# EAGLE library part TL071CN (library ST Microelctronics_By_element14_Batch_1)
single operational amplifier
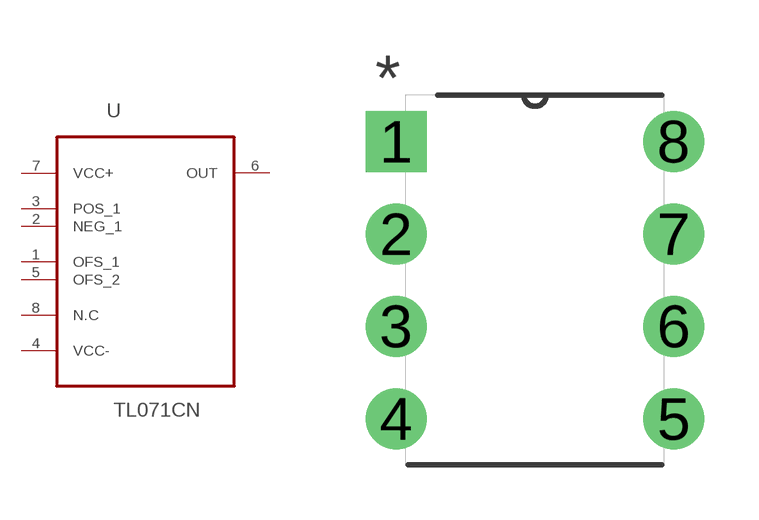
[diagram p398: symbol with the pads of DIP254P762X533-8; footprint DIP254P762X533-8]

Designator prefix U

## TL071CN (MPN: TL071CN; OC_FARNELL: 1094351; OC_NEWARK: 89K1100; PACKAGE: DIP-8; SUPPLIER: STMICROELECTRONICS)  [DIP254P762X533-8]
1  OFS_1  pas
2  NEG_1  in
3  POS_1  in
4  VCC-  pwr
5  OFS_2  pas
6  OUT  out
7  VCC+  pwr
8  N.C  nc

## Footprint DIP254P762X533-8 (pad centres in mm)
drill 1.118 square: 1 -7.62,7.62
drill 1.118: 2 -7.62,5.08; 3 -7.62,2.54; 4 -7.62,0; 5 0,0; 6 0,2.54; 7 0,5.08; 8 0,7.62